# EAGLE library part ESP32_DEVKIT_V1 (library CaliBeta-Modulos)
Microprocesador de doble nucleo a 80MHz, con WiFi y bBluetooth 4.2, ideal para aplicaciones IOT
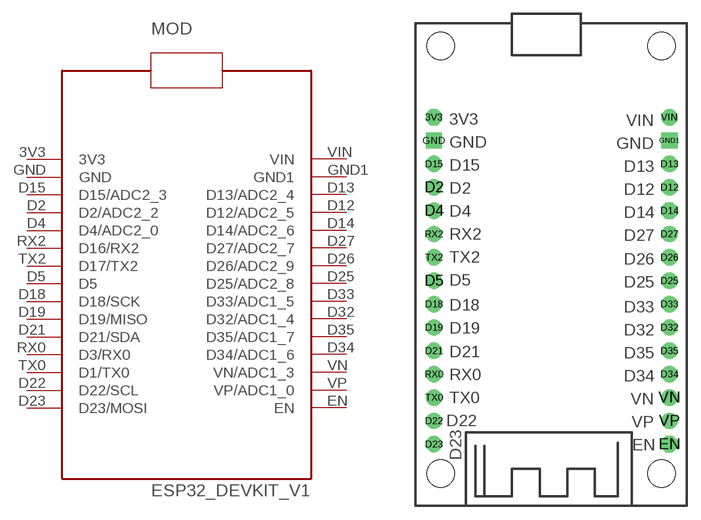
[diagram p11: symbol with the pads of ESP32_DEVKIT_V1; footprint ESP32_DEVKIT_V1]

Designator prefix MOD

## ESP32_DEVKIT_V1  [ESP32_DEVKIT_V1]
3V3  3V3  pwr
D2  D2/ADC2_2
D4  D4/ADC2_0
D5  D5
D12  D12/ADC2_5
D13  D13/ADC2_4
D14  D14/ADC2_6
D15  D15/ADC2_3
D18  D18/SCK
D19  D19/MISO
D21  D21/SDA
D22  D22/SCL
D23  D23/MOSI
D25  D25/ADC2_8
D26  D26/ADC2_9
D27  D27/ADC2_7
D32  D32/ADC1_4
D33  D33/ADC1_5
D34  D34/ADC1_6
D35  D35/ADC1_7
EN  EN
GND  GND  pwr
GND1  GND1  pwr
RX0  D3/RX0
RX2  D16/RX2
TX0  D1/TX0
TX2  D17/TX2
VIN  VIN  pwr
VN  VN/ADC1_3
VP  VP/ADC1_0

## Footprint ESP32_DEVKIT_V1 (pad centres in mm)
drill 0.9 pad 1.778 octagon: 3V3 2,42.252; D14 27.6,32.092; EN 27.6,6.692
drill 0.9 pad 1.778: D2 2,34.632; D4 2,32.092; D5 2,24.472; D12 27.6,34.632; D13 27.6,37.172; D15 2,37.172; D18 2,21.932; D19 2,19.392; D21 2,16.852; D22 2,9.232; D23 2,6.692; D25 27.6,24.472; D26 27.6,27.012; D27 27.6,29.552; D32 27.6,19.392; D33 27.6,21.932; D34 27.6,14.312; D35 27.6,16.852; RX0 2,14.312; RX2 2,29.552; TX0 2,11.772; TX2 2,27.012; VIN 27.6,42.252; VN 27.6,11.772; VP 27.6,9.232
drill 0.9 pad 1.778 square: GND 2,39.712; GND1 27.6,39.712
hole 3 at 26.75,3.5
hole 3 at 2.75,3.5
hole 3 at 2.75,50
hole 3 at 26.75,50